# Altium footprint library 段.PcbLib: 2 footprints
Each footprint in its own frame and in the unit in brackets; x right, y up, seen from the top. Pads: shape width x height; smd on the part's side, far side on the other; paste and mask are expansions set on the pad; w line width, h text height; cw(c..) or ccw(c..) is an arc to the next point about the centre after c.
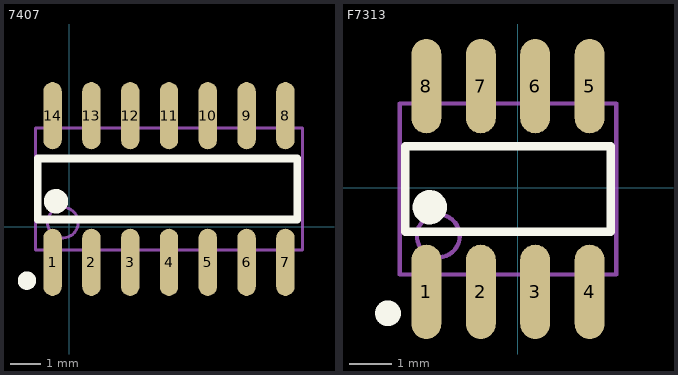
[diagram p0: the footprints below, top view; thin cyan lines are the x and y axes]

## 7407 [mm]
pads (14):
  oval 0.6x2.2 smd: 1(-0.543,-1.165) 2(0.727,-1.165) 3(1.997,-1.165) 4(3.267,-1.165) 5(4.537,-1.165) 6(5.807,-1.165) 7(7.077,-1.165) 8(7.077,3.635) 9(5.807,3.635) 10(4.537,3.635) 11(3.267,3.635) 12(1.997,3.635) 13(0.727,3.635) 14(-0.543,3.635)
Top Overlay:
  circle w0.3: c-1.383,-1.765 r0.15
  circle w0.4: c-0.433,0.835 r0.2
  lines w0.254: -1.033,0.235 7.467,0.235 7.467,2.235 -1.033,2.235 -1.033,0.235
Mechanical 13:
  circle w0.1: c-0.208,0.135 r0.5
  lines w0.1: -1.108,-0.765 7.642,-0.765 7.642,3.235 -1.108,3.235 -1.108,-0.765

## F7313 [mm]
pads (8):
  oval 0.7x2.2 smd: 1(-2.132,-2.432) 2(-0.862,-2.432) 3(0.408,-2.432) 4(1.678,-2.432) 5(1.678,2.368) 6(0.408,2.368) 7(-0.862,2.368) 8(-2.132,2.368)
Top Overlay:
  circle w0.3: c-3.027,-2.932 r0.15
  circle w0.4: c-2.052,-0.457 r0.2
  lines w0.2: -2.627,-1.032 2.173,-1.032 2.173,0.968 -2.627,0.968 -2.627,-1.032
Mechanical 13:
  circle w0.1: c-1.852,-1.127 r0.5
  lines w0.1: -2.752,-2.027 2.298,-2.027 2.298,1.963 -2.752,1.963 -2.752,-2.027